# Altium schematic symbol library KSZ8091RND.SchLib: 1 symbol
Pins are listed as number, name and electrical type; pins without a type are passive.

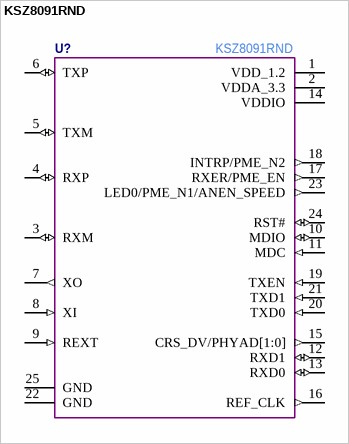
[diagram p0: symbol KSZ8091RND]

## KSZ8091RND
designator U?
Manufacturer Part Number: KSZ8091RND
pins: 1 VDD_1.2, 2 VDDA_3.3, 3 RXM (io), 4 RXP (io), 5 TXM (io), 6 TXP (io), 7 XO (out), 8 XI (in), 9 REXT (in), 10 MDIO (io), 11 MDC (in), 12 RXD1 (io), 13 RXD0 (io), 14 VDDIO, 15 CRS_DV/PHYAD[1:0] (out), 16 REF_CLK (out), 17 RXER/PME_EN (out), 18 INTRP/PME_N2 (out), 19 TXEN (in), 20 TXD0 (in), 21 TXD1 (in), 22 GND, 23 LED0/PME_N1/ANEN_SPEED (out), 24 RST# (io), 25 GND